# EAGLE library part ATSAMD51J20A-AUT (library ATSAMD51j20A)
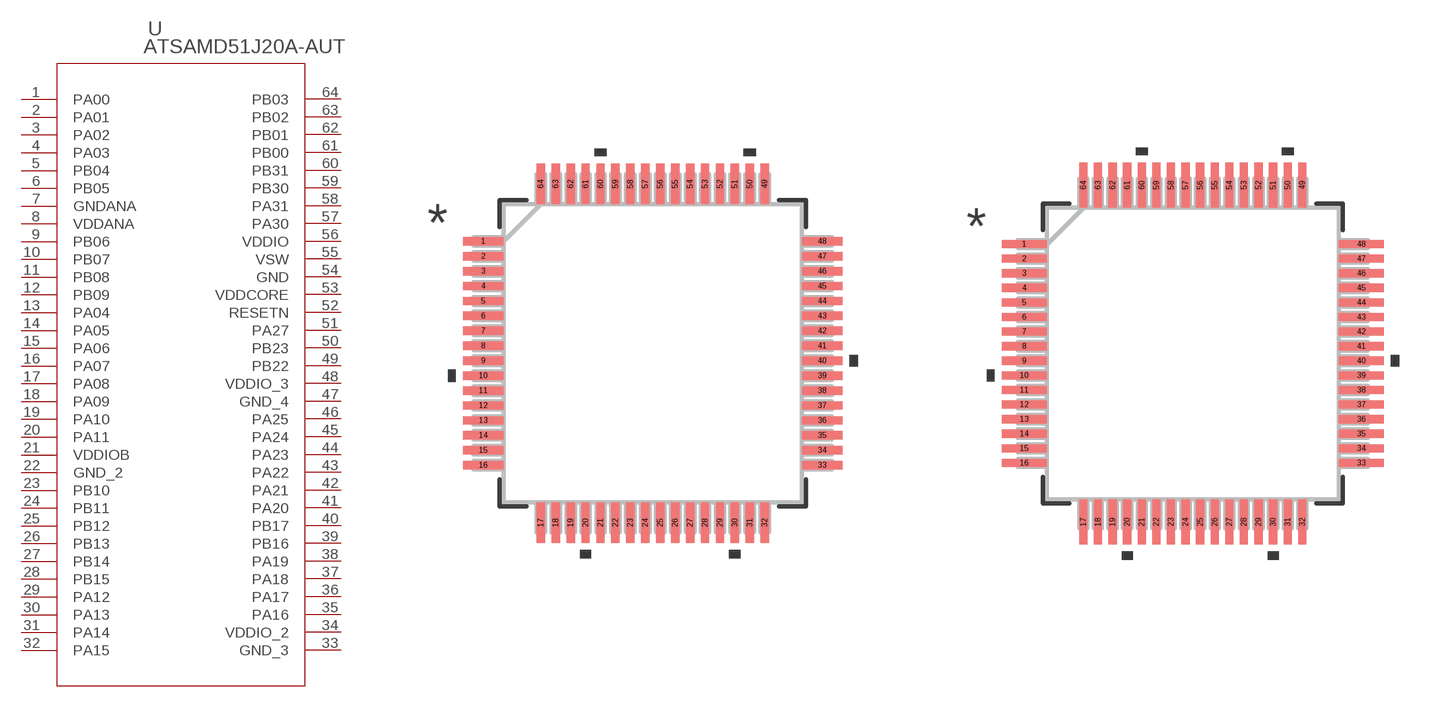
[diagram p0: symbol with the pads of TQFP64_PT_MCH; footprints TQFP64_PT_MCH, TQFP64_PT_MCH-M]

Designator prefix U

## ATSAMD51J20A-AUTTQFP64_PT_MCH (Copyright: Copyright (C) 2023 Ultra Librarian. All rights reserved.; Manufacturer_Part_Number: ATSAMD51J20A-AUT; Mfr_Name: Microchip)  [TQFP64_PT_MCH]
1  PA00
2  PA01
3  PA02
4  PA03
5  PB04
6  PB05
7  GNDANA  pas
8  VDDANA  pwr
9  PB06
10  PB07
11  PB08
12  PB09
13  PA04
14  PA05
15  PA06
16  PA07
17  PA08
18  PA09
19  PA10
20  PA11
21  VDDIOB  pwr
22  GND_2  pas
23  PB10
24  PB11
25  PB12
26  PB13
27  PB14
28  PB15
29  PA12
30  PA13
31  PA14
32  PA15
33  GND_3  pas
34  VDDIO_2  pwr
35  PA16
36  PA17
37  PA18
38  PA19
39  PB16
40  PB17
41  PA20
42  PA21
43  PA22
44  PA23
45  PA24
46  PA25
47  GND_4  pas
48  VDDIO_3  pwr
49  PB22
50  PB23
51  PA27
52  RESETN  in
53  VDDCORE  pwr
54  GND  pas
55  VSW  pwr
56  VDDIO  pwr
57  PA30
58  PA31
59  PB30
60  PB31
61  PB00
62  PB01
63  PB02
64  PB03

## ATSAMD51J20A-AUTTQFP64_PT_MCH-M (Copyright: Copyright (C) 2023 Ultra Librarian. All rights reserved.; Manufacturer_Part_Number: ATSAMD51J20A-AUT; Mfr_Name: Microchip)  [TQFP64_PT_MCH-M]
Pads as for TQFP64_PT_MCH

## ATSAMD51J20A-AUTTQFP64_PT_MCH-L (Copyright: Copyright (C) 2023 Ultra Librarian. All rights reserved.; Manufacturer_Part_Number: ATSAMD51J20A-AUT; Mfr_Name: Microchip)  [TQFP64_PT_MCH-L]
Pads as for TQFP64_PT_MCH

## Footprint TQFP64_PT_MCH (pad centres in mm)
smd 1.341 x 0.279: 1 -5.674,3.75; 2 -5.674,3.25; 3 -5.674,2.75; 4 -5.674,2.25; 5 -5.674,1.75; 6 -5.674,1.25; 7 -5.674,0.75; 8 -5.674,0.25; 9 -5.674,-0.25; 10 -5.674,-0.75; 11 -5.674,-1.25; 12 -5.674,-1.75; 13 -5.674,-2.25; 14 -5.674,-2.75; 15 -5.674,-3.25; 16 -5.674,-3.75; 33 5.674,-3.75; 34 5.674,-3.25; 35 5.674,-2.75; 36 5.674,-2.25; 37 5.674,-1.75; 38 5.674,-1.25; 39 5.674,-0.75; 40 5.674,-0.25; 41 5.674,0.25; 42 5.674,0.75; 43 5.674,1.25; 44 5.674,1.75; 45 5.674,2.25; 46 5.674,2.75; 47 5.674,3.25; 48 5.674,3.75
smd 0.279 x 1.341: 17 -3.75,-5.674; 18 -3.25,-5.674; 19 -2.75,-5.674; 20 -2.25,-5.674; 21 -1.75,-5.674; 22 -1.25,-5.674; 23 -0.75,-5.674; 24 -0.25,-5.674; 25 0.25,-5.674; 26 0.75,-5.674; 27 1.25,-5.674; 28 1.75,-5.674; 29 2.25,-5.674; 30 2.75,-5.674; 31 3.25,-5.674; 32 3.75,-5.674; 49 3.75,5.674; 50 3.25,5.674; 51 2.75,5.674; 52 2.25,5.674; 53 1.75,5.674; 54 1.25,5.674; 55 0.75,5.674; 56 0.25,5.674; 57 -0.25,5.674; 58 -0.75,5.674; 59 -1.25,5.674; 60 -1.75,5.674; 61 -2.25,5.674; 62 -2.75,5.674; 63 -3.25,5.674; 64 -3.75,5.674

## Footprint TQFP64_PT_MCH-M (pad centres in mm)
smd 1.541 x 0.279: 1 -5.774,3.75; 2 -5.774,3.25; 3 -5.774,2.75; 4 -5.774,2.25; 5 -5.774,1.75; 6 -5.774,1.25; 7 -5.774,0.75; 8 -5.774,0.25; 9 -5.774,-0.25; 10 -5.774,-0.75; 11 -5.774,-1.25; 12 -5.774,-1.75; 13 -5.774,-2.25; 14 -5.774,-2.75; 15 -5.774,-3.25; 16 -5.774,-3.75; 33 5.774,-3.75; 34 5.774,-3.25; 35 5.774,-2.75; 36 5.774,-2.25; 37 5.774,-1.75; 38 5.774,-1.25; 39 5.774,-0.75; 40 5.774,-0.25; 41 5.774,0.25; 42 5.774,0.75; 43 5.774,1.25; 44 5.774,1.75; 45 5.774,2.25; 46 5.774,2.75; 47 5.774,3.25; 48 5.774,3.75
smd 0.279 x 1.541: 17 -3.75,-5.774; 18 -3.25,-5.774; 19 -2.75,-5.774; 20 -2.25,-5.774; 21 -1.75,-5.774; 22 -1.25,-5.774; 23 -0.75,-5.774; 24 -0.25,-5.774; 25 0.25,-5.774; 26 0.75,-5.774; 27 1.25,-5.774; 28 1.75,-5.774; 29 2.25,-5.774; 30 2.75,-5.774; 31 3.25,-5.774; 32 3.75,-5.774; 49 3.75,5.774; 50 3.25,5.774; 51 2.75,5.774; 52 2.25,5.774; 53 1.75,5.774; 54 1.25,5.774; 55 0.75,5.774; 56 0.25,5.774; 57 -0.25,5.774; 58 -0.75,5.774; 59 -1.25,5.774; 60 -1.75,5.774; 61 -2.25,5.774; 62 -2.75,5.774; 63 -3.25,5.774; 64 -3.75,5.774

## Footprint TQFP64_PT_MCH-L (pad centres in mm)
smd 1.141 x 0.229: 1 -5.574,3.75; 2 -5.574,3.25; 3 -5.574,2.75; 4 -5.574,2.25; 5 -5.574,1.75; 6 -5.574,1.25; 7 -5.574,0.75; 8 -5.574,0.25; 9 -5.574,-0.25; 10 -5.574,-0.75; 11 -5.574,-1.25; 12 -5.574,-1.75; 13 -5.574,-2.25; 14 -5.574,-2.75; 15 -5.574,-3.25; 16 -5.574,-3.75; 33 5.574,-3.75; 34 5.574,-3.25; 35 5.574,-2.75; 36 5.574,-2.25; 37 5.574,-1.75; 38 5.574,-1.25; 39 5.574,-0.75; 40 5.574,-0.25; 41 5.574,0.25; 42 5.574,0.75; 43 5.574,1.25; 44 5.574,1.75; 45 5.574,2.25; 46 5.574,2.75; 47 5.574,3.25; 48 5.574,3.75
smd 0.229 x 1.141: 17 -3.75,-5.574; 18 -3.25,-5.574; 19 -2.75,-5.574; 20 -2.25,-5.574; 21 -1.75,-5.574; 22 -1.25,-5.574; 23 -0.75,-5.574; 24 -0.25,-5.574; 25 0.25,-5.574; 26 0.75,-5.574; 27 1.25,-5.574; 28 1.75,-5.574; 29 2.25,-5.574; 30 2.75,-5.574; 31 3.25,-5.574; 32 3.75,-5.574; 49 3.75,5.574; 50 3.25,5.574; 51 2.75,5.574; 52 2.25,5.574; 53 1.75,5.574; 54 1.25,5.574; 55 0.75,5.574; 56 0.25,5.574; 57 -0.25,5.574; 58 -0.75,5.574; 59 -1.25,5.574; 60 -1.75,5.574; 61 -2.25,5.574; 62 -2.75,5.574; 63 -3.25,5.574; 64 -3.75,5.574